# Altium footprint library Project_Oshinoko.PcbLib: 202 footprints (part 7 of 13)
Each footprint in its own frame and in the unit in brackets; x right, y up, seen from the top. Pads: shape width x height; smd on the part's side, far side on the other; paste and mask are expansions set on the pad; w line width, h text height; cw(c..) or ccw(c..) is an arc to the next point about the centre after c.
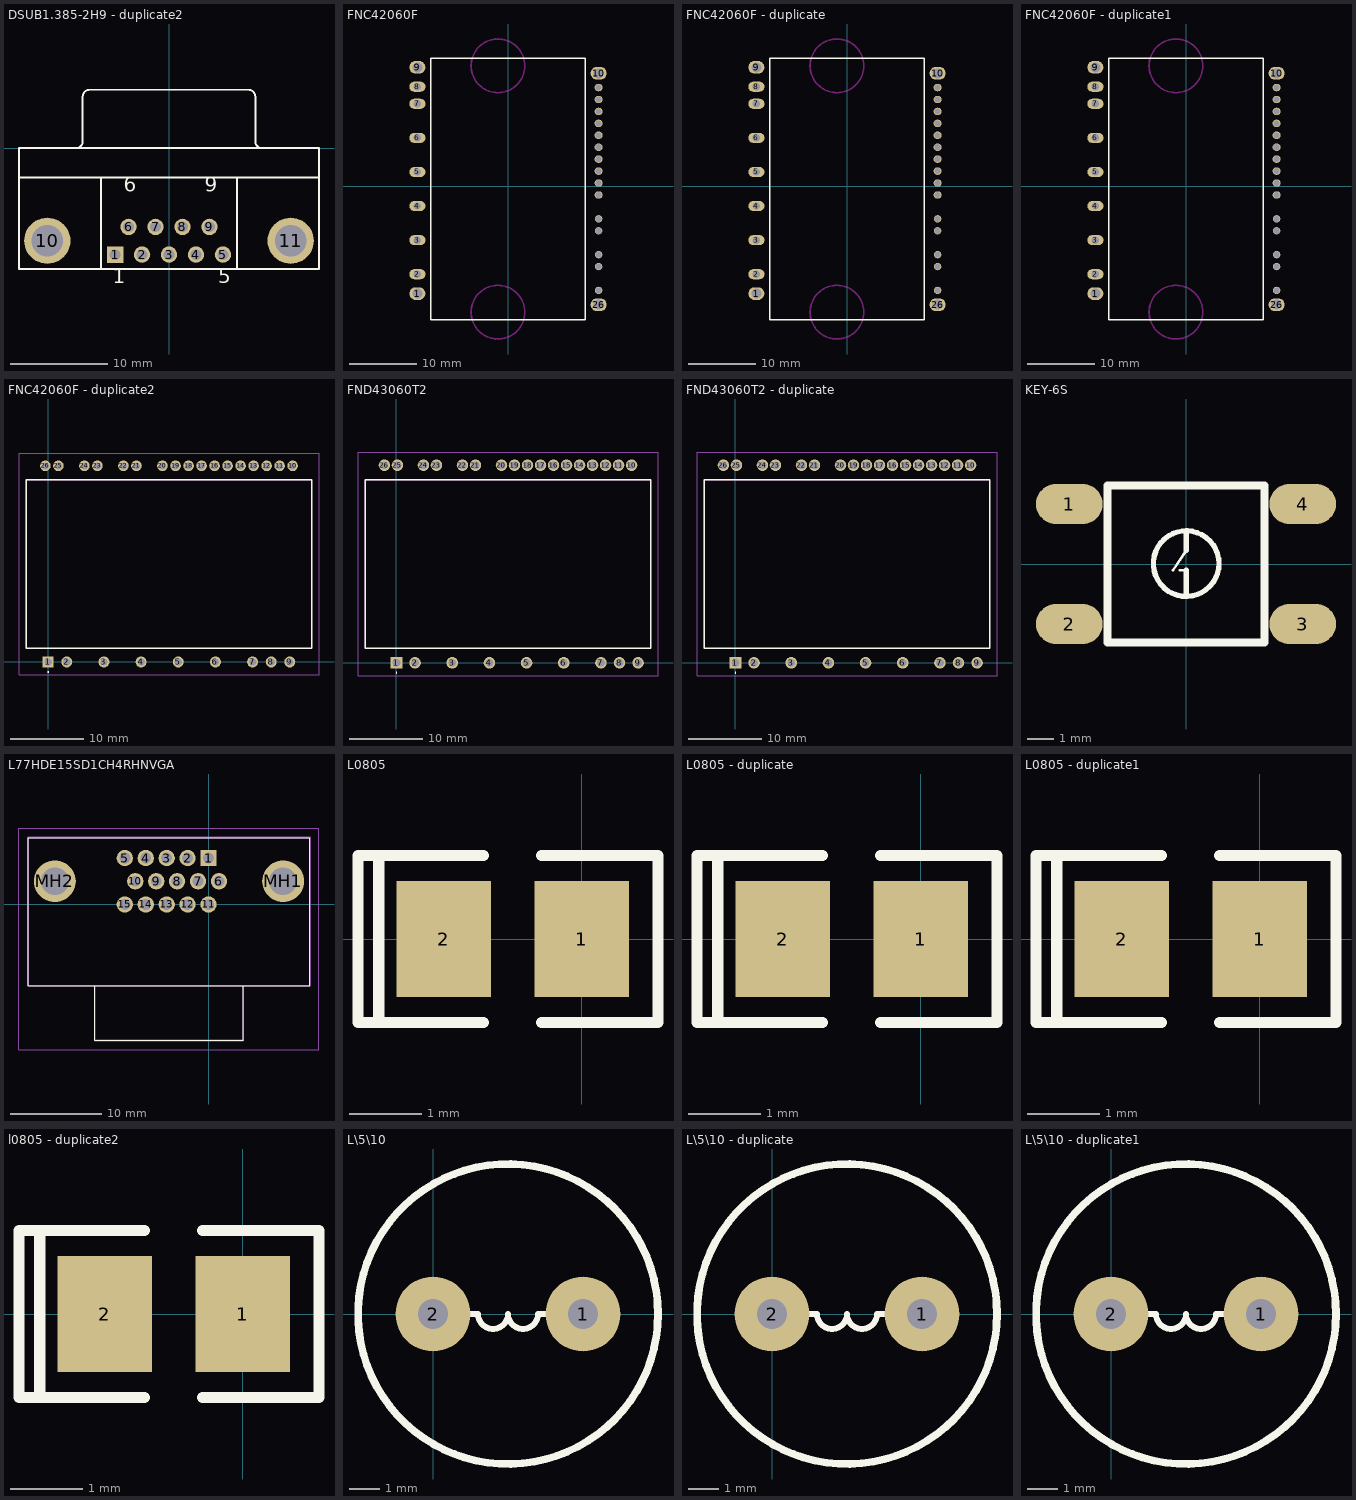
[diagram p6: the footprints below, top view; thin cyan lines are the x and y axes]

## DSUB1.385-2H9 - duplicate2 [mm]
pads (11):
  rect 1.69x1.69 hole 1.09: 1(-5.54,-10.92)
  round 1.69 hole 1.09: 2(-2.77,-10.92) 3(0,-10.92) 4(2.77,-10.92) 5(5.54,-10.92) 6(-4.155,-8.08) 7(-1.385,-8.08) 8(1.385,-8.08) 9(4.155,-8.08)
  round 4.76 hole 3.26: 10(-12.495,-9.5) 11(12.495,-9.5)
Top Overlay:
  lines w0.2: -15.4,-3 15.4,-3 ; -9.56,0.005 ccw(c-9.56,0.7) -8.865,0.7 -8.865,5.3 ; -8.86,5.305 cw(c-8.165,5.305) -8.165,6 8.165,6 cw(c8.165,5.305) 8.86,5.305 ; -7,-12.4 -7,-3 ; 7,-12.4 7,-3 ; 8.865,5.3 8.865,0.7 ccw(c9.56,0.7) 9.56,0.005 ; -15.4,-12.4 15.4,-12.4 15.4,0 -15.4,0 -15.4,-12.4
  text "6" at -4.655,-4.975 h2.54
  text "9" at 3.655,-4.975 h2.54
  text "5" at 5.04,-14.375 h2.54
  text "1" at -5.79,-14.375 h2.54

## FNC42060F [mm]
pads (26):
  oval 2.4x1.9 hole 1.5: 1(-13.5,-16.034) 9(-13.5,17.686) 10(13.5,16.797) 26(13.5,-17.685)
  oval 2.4x1.5 hole 1.1: 2(-13.5,-13.144) 3(-13.5,-8.064) 4(-13.5,-2.984) 5(-13.5,2.095) 6(-13.5,7.175) 7(-13.5,12.256) 8(-13.5,14.795)
  oval 1.2x1.1 hole 0.9: 11(13.5,14.668) 12(13.5,12.891) 13(13.5,11.112) 14(13.5,9.335) 15(13.5,7.556) 16(13.5,5.779) 17(13.5,4) 18(13.5,2.223) 19(13.5,0.444) 20(13.5,-1.333)
  round 1.1 hole 0.9: 21(13.5,-4.889) 22(13.5,-6.668) 23(13.5,-10.223) 24(13.5,-12.001) 25(13.5,-15.557)
Top Overlay:
  lines w0.254: -11.5,-19.944 -11.5,19.056 11.5,19.056 11.5,-19.944 -11.5,-19.944
Keep-Out Layer:
  circle w0.254: c-1.5,-18.795 r4
  circle w0.254: c-1.5,17.906 r4

## FNC42060F - duplicate [mm]
pads (26):
  oval 2.4x1.9 hole 1.5: 1(-13.5,-16.034) 9(-13.5,17.686) 10(13.5,16.797) 26(13.5,-17.685)
  oval 2.4x1.5 hole 1.1: 2(-13.5,-13.144) 3(-13.5,-8.064) 4(-13.5,-2.984) 5(-13.5,2.095) 6(-13.5,7.175) 7(-13.5,12.256) 8(-13.5,14.795)
  oval 1.2x1.1 hole 0.9: 11(13.5,14.668) 12(13.5,12.891) 13(13.5,11.112) 14(13.5,9.335) 15(13.5,7.556) 16(13.5,5.779) 17(13.5,4) 18(13.5,2.223) 19(13.5,0.444) 20(13.5,-1.333)
  round 1.1 hole 0.9: 21(13.5,-4.889) 22(13.5,-6.668) 23(13.5,-10.223) 24(13.5,-12.001) 25(13.5,-15.557)
Top Overlay:
  lines w0.254: -11.5,-19.944 11.5,-19.944 11.5,19.056 -11.5,19.056 -11.5,-19.944
Keep-Out Layer:
  circle w0.254: c-1.5,17.906 r4
  circle w0.254: c-1.5,-18.795 r4

## FNC42060F - duplicate1 [mm]
pads (26):
  oval 2.4x1.9 hole 1.5: 1(-13.5,-16.034) 9(-13.5,17.686) 10(13.5,16.797) 26(13.5,-17.685)
  oval 2.4x1.5 hole 1.1: 2(-13.5,-13.144) 3(-13.5,-8.064) 4(-13.5,-2.984) 5(-13.5,2.095) 6(-13.5,7.175) 7(-13.5,12.256) 8(-13.5,14.795)
  oval 1.2x1.1 hole 0.9: 11(13.5,14.668) 12(13.5,12.891) 13(13.5,11.112) 14(13.5,9.335) 15(13.5,7.556) 16(13.5,5.779) 17(13.5,4) 18(13.5,2.223) 19(13.5,0.444) 20(13.5,-1.333)
  round 1.1 hole 0.9: 21(13.5,-4.889) 22(13.5,-6.668) 23(13.5,-10.223) 24(13.5,-12.001) 25(13.5,-15.557)
Top Overlay:
  lines w0.254: -11.5,-19.944 11.5,-19.944 11.5,19.056 -11.5,19.056 -11.5,-19.944
Keep-Out Layer:
  circle w0.254: c-1.5,17.906 r4
  circle w0.254: c-1.5,-18.795 r4

## FNC42060F - duplicate2 [mm]
pads (26):
  rect 1.5x1.5 hole 1: 1(0,0)
  round 1.5 hole 1: 2(2.54,0) 3(7.62,0) 4(12.7,0) 5(17.78,0) 6(22.86,0) 7(27.94,0) 8(30.48,0) 9(33.02,0)
  round 1.447 hole 0.93: 10(33.401,26.8) 11(31.623,26.8) 12(29.845,26.8) 13(28.067,26.8) 14(26.289,26.8) 15(24.511,26.8) 16(22.733,26.8) 17(20.955,26.8) 18(19.177,26.8) 19(17.399,26.8) 20(15.621,26.8) 21(12.065,26.8) 22(10.287,26.8) 23(6.731,26.8) 24(4.953,26.8) 25(1.397,26.8) 26(-0.381,26.8)
Top Overlay:
  lines w0.1: 0,-1.4 cw(c0,-1.35) 0,-1.3 cw(c0,-1.35) 0,-1.4
  lines w0.2: -2.99,1.9 -2.99,24.9 36.01,24.9 36.01,1.9 -2.99,1.9
Mechanical 13:
  lines w0.1: -2.99,1.9 -2.99,24.9 36.01,24.9 36.01,1.9 -2.99,1.9
Mechanical 15:
  lines w0.1: -3.99,-1.75 -3.99,28.523 37.01,28.523 37.01,-1.75 -3.99,-1.75
3D body "FNC42060F.stp": height 4.9, standoff -5, extent -2.99,-0.399 36.01,27.164

## FND43060T2 [mm]
pads (26):
  rect 1.575x1.575 hole 1.05: 1(0,0)
  round 1.575 hole 1.05: 2(2.54,0) 3(7.62,0) 4(12.7,0) 5(17.78,0) 6(22.86,0) 7(27.94,0) 8(30.48,0) 9(33.02,0) 10(32.131,27) 11(30.353,27) 12(28.575,27) 13(26.797,27) 14(25.019,27) 15(23.241,27) 16(21.463,27) 17(19.685,27) 18(17.907,27) 19(16.129,27) 20(14.351,27) 21(10.795,27) 22(9.017,27) 23(5.461,27) 24(3.683,27) 25(0.127,27) 26(-1.651,27)
Top Overlay:
  lines w0.1: 0,-1.4 cw(c0,-1.35) 0,-1.3 cw(c0,-1.35) 0,-1.4
  lines w0.2: -4.26,2 -4.26,25 34.74,25 34.74,2 -4.26,2
Mechanical 13:
  lines w0.1: -4.26,2 -4.26,25 34.74,25 34.74,2 -4.26,2
Mechanical 15:
  lines w0.1: -5.26,-1.787 -5.26,28.788 35.74,28.788 35.74,-1.787 -5.26,-1.787
3D body "FND43060T2.stp": height 7.6, standoff -5, extent -4.26,-0.424 34.74,27.424

## FND43060T2 - duplicate [mm]
pads (26):
  rect 1.575x1.575 hole 1.05: 1(0,0)
  round 1.575 hole 1.05: 2(2.54,0) 3(7.62,0) 4(12.7,0) 5(17.78,0) 6(22.86,0) 7(27.94,0) 8(30.48,0) 9(33.02,0) 10(32.131,27) 11(30.353,27) 12(28.575,27) 13(26.797,27) 14(25.019,27) 15(23.241,27) 16(21.463,27) 17(19.685,27) 18(17.907,27) 19(16.129,27) 20(14.351,27) 21(10.795,27) 22(9.017,27) 23(5.461,27) 24(3.683,27) 25(0.127,27) 26(-1.651,27)
Top Overlay:
  lines w0.1: 0,-1.4 cw(c0,-1.35) 0,-1.3 cw(c0,-1.35) 0,-1.4
  lines w0.2: -4.26,2 -4.26,25 34.74,25 34.74,2 -4.26,2
Mechanical 13:
  lines w0.1: -4.26,2 -4.26,25 34.74,25 34.74,2 -4.26,2
Mechanical 15:
  lines w0.1: -5.26,-1.787 -5.26,28.788 35.74,28.788 35.74,-1.787 -5.26,-1.787
3D body "FND43060T2.stp": height 7.6, standoff -5, extent -4.26,-0.424 34.74,27.424

## KEY-6S [mil]
pads (4):
  oval 100x60 smd: 1(-175,90) 2(-175,-90) 3(175,-90) 4(175,90)
Top Overlay:
  circle w8: c0.27,0.61 r49.21
  lines w4: -19.42,-9.24 0.27,20.29 ; -9.57,-9.24 0.27,-9.24
  lines w8: 0.27,-48.61 0.27,-9.23 ; 0.27,20.29 0.27,49.82
  lines w12: -118.11,-118.11 -118.11,118.11 118.11,118.11 118.11,-118.11 -118.11,-118.11

## L77HDE15SD1CH4RHNVGA [mm]
pads (17):
  rect 1.785x1.785 hole 1.19: 1(0,5.08)
  round 1.785 hole 1.19: 2(-2.29,5.08) 3(-4.58,5.08) 4(-6.87,5.08) 5(-9.16,5.08) 6(1.145,2.54) 7(-1.145,2.54) 8(-3.435,2.54) 9(-5.725,2.54) 10(-8.015,2.54) 11(0,0) 12(-2.29,0) 13(-4.58,0) 14(-6.87,0) 15(-9.16,0)
  round 4.575 hole 3.05: MH1(8.17,2.54) MH2(-16.82,2.54)
Top Overlay:
  lines w0.1: -19.745,-8.89 -19.745,7.33 11.095,7.33 11.095,-8.89 -19.745,-8.89 ; -12.455,-14.89 -12.455,-8.89 3.805,-8.89 3.805,-14.89 -12.455,-14.89
Mechanical 13:
  lines w0.2: -19.745,-8.89 -19.745,7.33 11.095,7.33 11.095,-8.89 -19.745,-8.89 ; -12.455,-14.89 -12.455,-8.89 3.805,-8.89 3.805,-14.89 -12.455,-14.89
Mechanical 15:
  lines w0.1: -20.745,-15.89 -20.745,8.33 12.095,8.33 12.095,-15.89 -20.745,-15.89
3D body "L77HDE15SD1CH4RHNVGA.stp": height 12.59, standoff -3.16, extent -19.72,-14.63 11.08,7.07

## L0805 [mm]
pads (2):
  rect 1.3x1.6 smd: 1(0,0) 2(-1.9,0)
Top Overlay:
  lines w0.152: -2.794,-1.15 -2.794,1.15 ; -1.35,-1.15 -3.08,-1.15 -3.08,1.15 -1.35,1.15 ; -0.55,-1.15 1.05,-1.15 1.05,1.15 -0.55,1.15

## L0805 - duplicate [mm]
pads (2):
  rect 1.3x1.6 smd: 1(0,0) 2(-1.9,0)
Top Overlay:
  lines w0.152: -2.794,-1.15 -2.794,1.15 ; -1.35,-1.15 -3.08,-1.15 -3.08,1.15 -1.35,1.15 ; -0.55,-1.15 1.05,-1.15 1.05,1.15 -0.55,1.15

## L0805 - duplicate1 [mm]
pads (2):
  rect 1.3x1.6 smd: 1(0,0) 2(-1.9,0)
Top Overlay:
  lines w0.152: -2.794,-1.15 -2.794,1.15 ; -1.35,-1.15 -3.08,-1.15 -3.08,1.15 -1.35,1.15 ; -0.55,-1.15 1.05,-1.15 1.05,1.15 -0.55,1.15

## l0805 - duplicate2 [mm]
pads (2):
  rect 1.3x1.6 smd: 1(0,0) 2(-1.9,0)
Top Overlay:
  lines w0.152: -2.794,-1.15 -2.794,1.15 ; -1.35,-1.15 -3.08,-1.15 -3.08,1.15 -1.35,1.15 ; -0.55,-1.15 1.05,-1.15 1.05,1.15 -0.55,1.15

## L\5\10 [mm]
pads (2):
  round 2.5 hole 1: 1(5,0) 2(0,0)
Top Overlay:
  circle w0.254: c2.5,0 r5
  lines w0.2: 0,0 1.5,0 ccw(c2,0) 2.5,0 ccw(c3,0) 3.5,0 5,0
Bottom Overlay:
  lines w0.2: 0,0 1.5,0 ccw(c2,0) 2.5,0 ccw(c3,0) 3.5,0 5,0

## L\5\10 - duplicate [mm]
pads (2):
  round 2.5 hole 1: 1(5,0) 2(0,0)
Top Overlay:
  circle w0.254: c2.5,0 r5
  lines w0.2: 0,0 1.5,0 ccw(c2,0) 2.5,0 ccw(c3,0) 3.5,0 5,0
Bottom Overlay:
  lines w0.2: 0,0 1.5,0 ccw(c2,0) 2.5,0 ccw(c3,0) 3.5,0 5,0

## L\5\10 - duplicate1 [mm]
pads (2):
  round 2.5 hole 1: 1(5,0) 2(0,0)
Top Overlay:
  circle w0.254: c2.5,0 r5
  lines w0.2: 0,0 1.5,0 ccw(c2,0) 2.5,0 ccw(c3,0) 3.5,0 5,0
Bottom Overlay:
  lines w0.2: 0,0 1.5,0 ccw(c2,0) 2.5,0 ccw(c3,0) 3.5,0 5,0